# EAGLE library part NEO-N8 (library barthess)
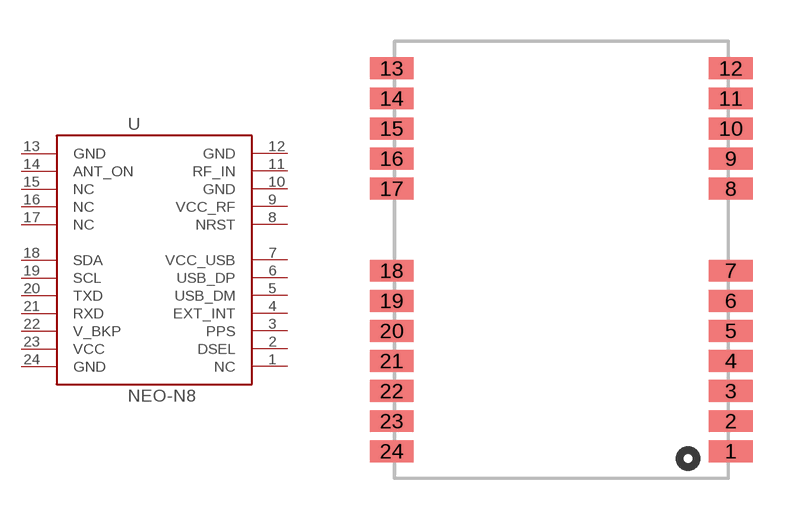
[diagram p37: symbol with the pads of NEO-M8; footprint NEO-M8]

Designator prefix -

## NEO-N8  [NEO-M8]
1  NC  nc
2  DSEL  in
3  PPS  out
4  EXT_INT
5  USB_DM
6  USB_DP
7  VCC_USB  in
8  NRST  in
9  VCC_RF  pwr
10  GND  pwr
11  RF_IN  in
12  GND  pwr
13  GND  pwr
14  ANT_ON  nc
15  NC  nc
16  NC  nc
17  NC  nc
18  SDA
19  SCL
20  TXD  out
21  RXD  in
22  V_BKP  pwr
23  VCC  pwr
24  GND  pwr

## Footprint NEO-M8 (pad centres in mm)
smd 1.6 x 0.8: 1 12.3,-15; 2 12.3,-13.9; 3 12.3,-12.8; 4 12.3,-11.7; 5 12.3,-10.6; 6 12.3,-9.5; 7 12.3,-8.4; 8 12.3,-5.4; 9 12.3,-4.3; 10 12.3,-3.2; 11 12.3,-2.1; 12 12.3,-1; 13 -0.1,-1; 14 -0.1,-2.1; 15 -0.1,-3.2; 16 -0.1,-4.3; 17 -0.1,-5.4; 18 -0.1,-8.4; 19 -0.1,-9.5; 20 -0.1,-10.6; 21 -0.1,-11.7; 22 -0.1,-12.8; 23 -0.1,-13.9; 24 -0.1,-15